# Altium footprint library STM32_NEW.PcbLib: 28 footprints (part 2 of 2)
Each footprint in its own frame and in the unit in brackets; x right, y up, seen from the top. Pads: shape width x height; smd on the part's side, far side on the other; paste and mask are expansions set on the pad; w line width, h text height; cw(c..) or ccw(c..) is an arc to the next point about the centre after c.
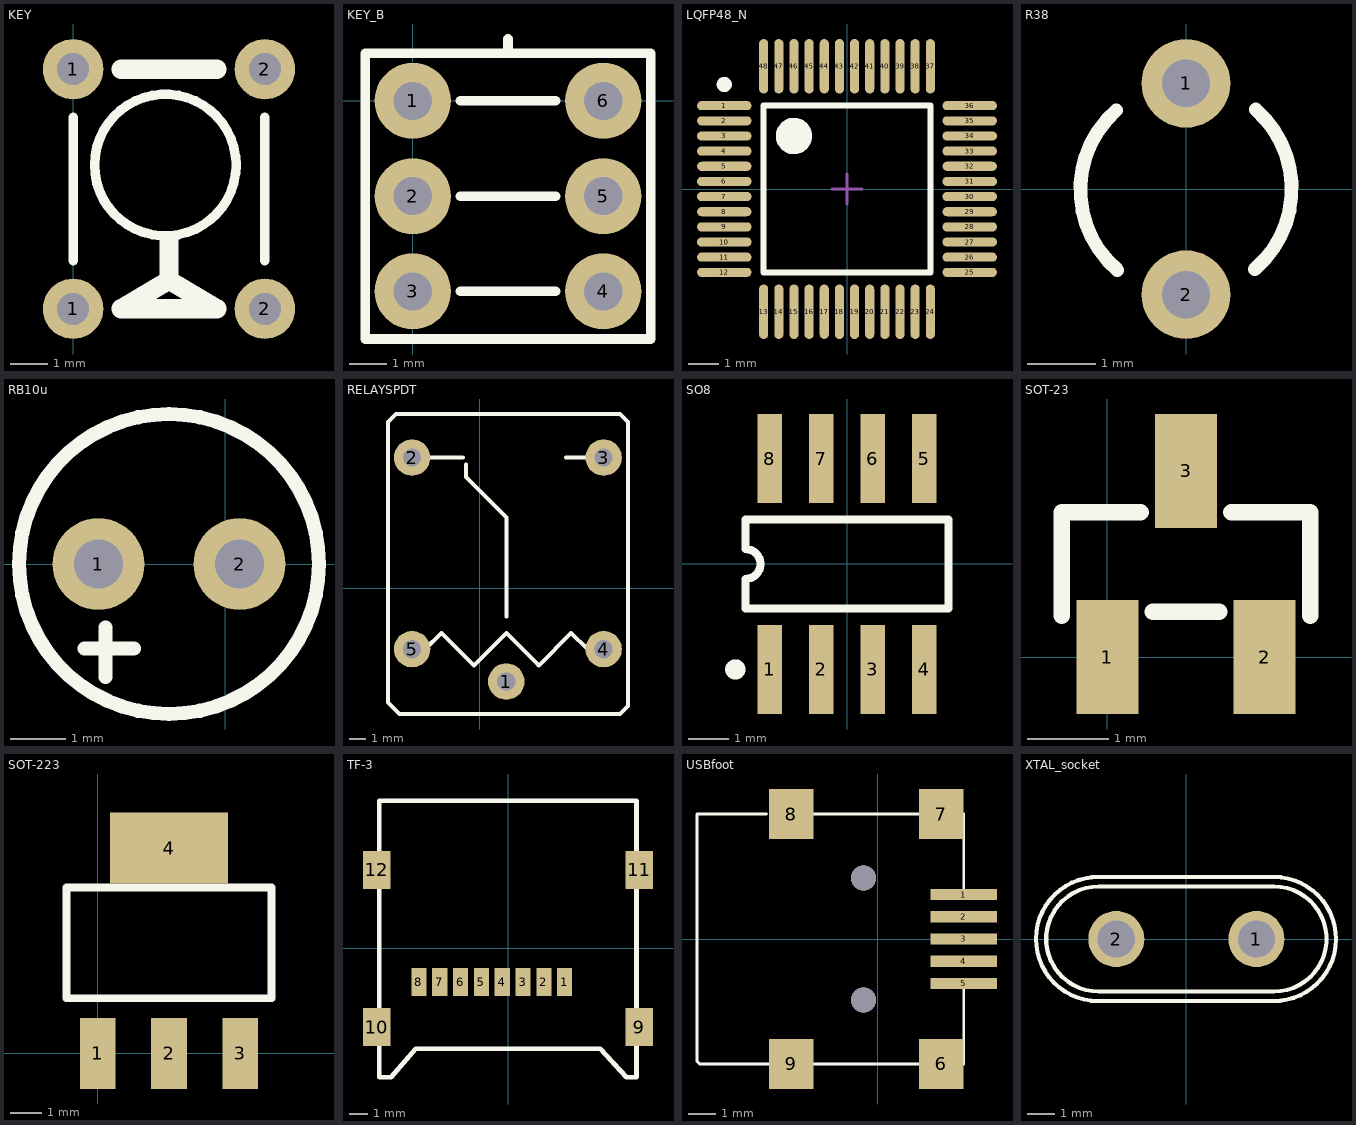
[diagram p1: the footprints below, top view; thin cyan lines are the x and y axes]

## KEY [mm]
height 1.9
pads (4):
  round 1.6 hole 0.85: 1(0,1.27) 1(0,7.62) 2(5.08,1.27) 2(5.08,7.62)
Top Overlay:
  circle w0.254: c2.443,5.08 r1.875
  lines w0.254: 0,2.54 0,6.35 ; 5.08,2.54 5.08,6.35
  lines w0.508: 1.27,7.62 3.81,7.62 ; 2.54,3.048 2.54,2.032 ; 2.54,2.032 3.81,1.27 1.27,1.27 2.54,2.032

## KEY_B [mil]
height 74.8
pads (6):
  round 80 hole 40: 1(0,0) 2(0,-100) 3(0,-200) 4(200,-200) 5(200,-100) 6(200,0)
Top Overlay:
  lines w10: 50,-200 150,-200 ; 50,-100 150,-100 ; 50,0 150,0 ; 100,50 100,65 ; -50,-250 -50,50 250,50 250,-250 -50,-250

## LQFP48_N [mm]
height 1.9
pads (48):
  oval 1.8x0.3 smd: 1(-4.05,2.75) 2(-4.05,2.25) 3(-4.05,1.75) 4(-4.05,1.25) 5(-4.05,0.75) 6(-4.05,0.25) 7(-4.05,-0.25) 8(-4.05,-0.75) 9(-4.05,-1.25) 10(-4.05,-1.75) 11(-4.05,-2.25) 12(-4.05,-2.75) 25(4.05,-2.75) 26(4.05,-2.25) 27(4.05,-1.75) 28(4.05,-1.25) 29(4.05,-0.75) 30(4.05,-0.25) 31(4.05,0.25) 32(4.05,0.75) 33(4.05,1.25) 34(4.05,1.75) 35(4.05,2.25) 36(4.05,2.75)
  oval 0.3x1.8 smd: 13(-2.75,-4.05) 14(-2.25,-4.05) 15(-1.75,-4.05) 16(-1.25,-4.05) 17(-0.75,-4.05) 18(-0.25,-4.05) 19(0.25,-4.05) 20(0.75,-4.05) 21(1.25,-4.05) 22(1.75,-4.05) 23(2.25,-4.05) 24(2.75,-4.05) 37(2.75,4.05) 38(2.25,4.05) 39(1.75,4.05) 40(1.25,4.05) 41(0.75,4.05) 42(0.25,4.05) 43(-0.25,4.05) 44(-0.75,4.05) 45(-1.25,4.05) 46(-1.75,4.05) 47(-2.25,4.05) 48(-2.75,4.05)
Top Overlay:
  circle w0.6: c-1.75,1.75 r0.3
  circle w0.25: c-4.05,3.45 r0.125
  lines w0.2: -2.75,-2.75 2.75,-2.75 2.75,2.75 -2.75,2.75 -2.75,-2.75
Mechanical 15:
  lines w0.1: -0.5,0 0.5,0 ; 0,-0.5 0,0.5

## R38 [mm] "Crystal, Thru-Hole; 2 Leads; Body 3.1 x 8.2 mm (Dia.xH)"
height 8.2
pads (2):
  round 1.3 hole 0.7: 1(0,1.55) 2(0,-1.55)
Top Overlay:
  lines w0.2: -1.022,1.155 ccw(c0,-0.01) -1.006,-1.189 ; 1.006,-1.179 ccw(c0,0) 1.022,1.165

## RB10u [mil]
height 74.8
pads (2):
  round 65 hole 35: 1(-90,0) 2(10,0)
Top Overlay:
  circle w10: c-40,0 r106.3
  lines w10: -100,-60 -75,-60 -65,-60 ; -85,-80 -85,-45

## RELAYSPDT [mil]
height 74.8
pads (5):
  round 90 hole 45: 1(65,-230) 2(-167.44,322.44) 3(305,322.44) 4(305,-150) 5(-167.44,-150)
Top Overlay:
  lines w10: -226.76,-250 -226.76,410 -206.76,430 -115,430 ; -226.76,118.24 -226.76,378.24 ; -226.76,150 -226.76,-281.76 -198.52,-310 -95,-310 ; -167.44,-150 -135,-150 -95,-110 -15,-190 65,-110 145,-190 225,-110 265,-150 305,-150 ; -167.44,322.44 -42.56,322.44 ; -155,-310 345,-310 365,-290 365,-230 ; -155,430 125,430 ; -35,305 -35,275 65,174.88 65,170 65,-70 ; 65,430 345,430 365,410 365,340 ; 212.56,322.44 305,322.44 ; 365,-270 365,370

## SO8 [mm] "Small Outline; 8 Leads; Body Width 3.9 mm; Pitch 1.27 mm"
height 1.75
pads (8):
  rect 0.6x2.2 smd: 1(-1.905,-2.6) 2(-0.635,-2.6) 3(0.635,-2.6) 4(1.905,-2.6) 5(1.905,2.6) 6(0.635,2.6) 7(-0.635,2.6) 8(-1.905,2.6)
Top Overlay:
  circle w0.25: c-2.755,-2.6 r0.125
  lines w0.2: -2.5,-1.1 2.5,-1.1 2.5,1.1 -2.5,1.1 -2.5,0.367 cw(c-2.5,0) -2.5,-0.367 -2.5,-1.1

## SOT-23 [mil]
height 74.8
pads (3):
  rect 30x55 smd: 1(0,0) 2(76,0) 3(38,90)
Top Overlay:
  lines w8: -22,20 -22,70 16,70 ; 22,22 54,22 ; 60,70 98,70 98,20

## SOT-223 [mil]
height 74.8
pads (4):
  rect 45x90 smd: 1(0,0) 2(90,0) 3(180,0)
  rect 150x90 smd: 4(90,260)
Top Overlay:
  lines w10: -40,70 -40,210 220,210 220,70 -40,70

## TF-3 [mm]
pads (12):
  rect 0.8x1.5 smd: 1(2.993,-1.772) 2(1.893,-1.772) 3(0.793,-1.772) 4(-0.307,-1.772) 5(-1.407,-1.772) 6(-2.507,-1.772) 7(-3.607,-1.772) 8(-4.707,-1.772)
  rect 1.45x2 smd: 9(6.925,-4.15) 10(-6.925,-4.15) 11(6.925,4.15) 12(-6.925,4.15)
Top Overlay:
  lines w0.254: -6.805,-6.8 -6.805,7.8 6.795,7.8 6.795,-6.8 6.264,-6.8 4.865,-5.3 -4.875,-5.3 -6.182,-6.8 -6.805,-6.8

## USBfoot [mm]
height 1.9
pads (9):
  rect 2.4x0.4 smd: 1(3.1,1.6) 2(3.1,0.8) 3(3.1,0) 4(3.1,-0.8) 5(3.1,-1.6)
  rect 1.6x1.8 smd: 6(2.3,-4.5) 7(2.3,4.5) 8(-3.1,4.5) 9(-3.1,-4.5)
via -0.5,-2.2 diameter 0.9 hole 0.9
via -0.5,2.2 diameter 0.9 hole 0.9
Top Overlay:
  lines w0.1: -4,4.5 -6.5,4.5 -6.5,-4.4 -6.4,-4.5 -3.9,-4.5 ; -2.3,-4.5 1.5,-4.5 ; -2.3,4.5 1.5,4.5 ; 3.1,-4.5 3.1,-1.8 ; 3.1,1.8 3.1,4.5

## XTAL_socket [mil]
height 74.8
pads (2):
  round 80 hole 53: 1(100,0) 2(-100,0)
Top Overlay:
  lines w6: -126,-88.58 cw(c-126,0) -125.09,88.58 125,88.58 cw(c125,0) 124.07,-88.58 -126,-88.58 ; -125,-75 cw(c-125,0) -125,75 125,75 cw(c125,0) 125,-75 -125,-75